# Altium schematic symbol library HT66F004.Schlib: 1 symbol
Pins are listed as number, name and electrical type; pins without a type are passive.

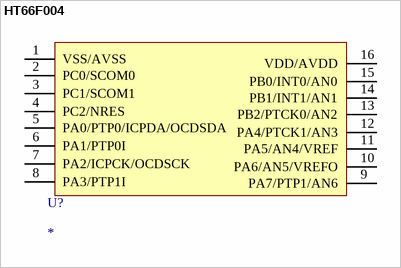
[diagram p0: symbol HT66F004]

## HT66F004
designator U?
footprint SOP16
pins: 1 VSS/AVSS, 2 PC0/SCOM0, 3 PC1/SCOM1, 4 PC2/NRES, 5 PA0/PTP0/ICPDA/OCDSDA, 6 PA1/PTP0I, 7 PA2/ICPCK/OCDSCK, 8 PA3/PTP1I, 9 PA7/PTP1/AN6, 10 PA6/AN5/VREFO, 11 PA5/AN4/VREF, 12 PA4/PTCK1/AN3, 13 PB2/PTCK0/AN2, 14 PB1/INT1/AN1, 15 PB0/INT0/AN0, 16 VDD/AVDD